# Altium footprint library MIC29302.PcbLib: 2 footprints
Each footprint in its own frame and in the unit in brackets; x right, y up, seen from the top. Pads: shape width x height; smd on the part's side, far side on the other; paste and mask are expansions set on the pad; w line width, h text height; cw(c..) or ccw(c..) is an arc to the next point about the centre after c.
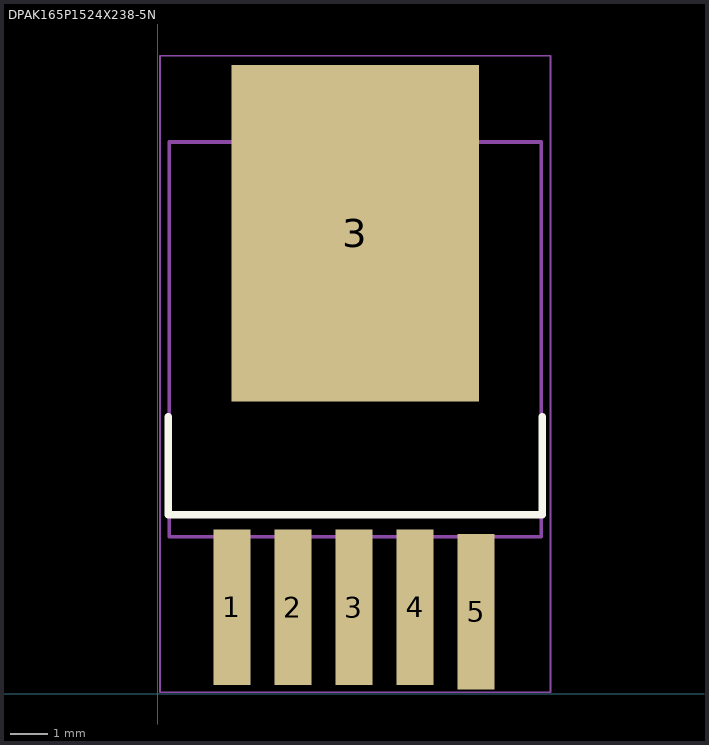
[diagram p0: the footprints below, top view; thin cyan lines are the x and y axes]

## DPAK165P1524X238-5N [mm] "D2-PAK, 5-Pads, Body 8.43x8.39mm (max), IPC Medium Density"
height 2.38
pads (6):
  rect 1x4.2 smd: 1(2,2.336) 2(3.65,2.336) 3(5.3,2.336) 4(6.95,2.336) 5(8.6,2.209)
  rect 6.7x9.1 smd: 3(5.334,12.436)
Top Overlay:
  circle w0.25: c1.809,2.336 r0.125
  lines w0.2: 0.284,7.486 0.284,4.836 10.384,4.836 10.384,7.486
Mechanical 13:
  lines w0.1: 0.309,4.236 0.309,14.906 10.359,14.906 10.359,4.236 0.309,4.236
Mechanical 15:
  lines w0.05: 0.059,0.036 0.059,17.236 10.609,17.236 10.609,0.036 0.059,0.036
  lines w0.1: 4.834,8.636 5.834,8.636 ; 5.334,8.136 5.334,9.136
3D body: height 2.38, standoff 0, extent 0.309,4.236 10.359,14.906

## PCBComponent_1 - duplicate [mm]